# Altium footprint library PCB - POWER MODULE - URB2412YMD-40WR3.PcbLib: 1 footprints
Each footprint in its own frame and in the unit in brackets; x right, y up, seen from the top. Pads: shape width x height; smd on the part's side, far side on the other; paste and mask are expansions set on the pad; w line width, h text height; cw(c..) or ccw(c..) is an arc to the next point about the centre after c.
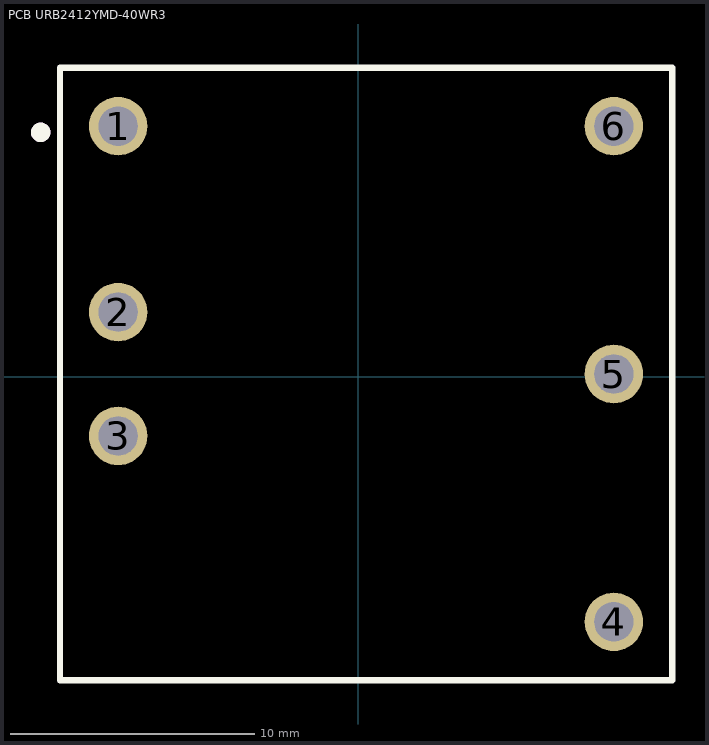
[diagram p0: the footprint, top view; thin cyan lines are the x and y axes]

## PCB URB2412YMD-40WR3 [mm]
pads (6):
  round 2.4 hole 1.6 slot 1.605 at 90 deg paste+0 mask+0.051: 1(-9.833,10.264) 2(-9.833,2.644) 3(-9.833,-2.436) 4(10.487,-10.056) 5(10.487,0.104) 6(10.487,10.264)
Top Overlay:
  lines w0.254: -12.222,-12.446 -12.222,12.654 12.878,12.654 12.878,-12.446 -12.222,-12.446
  lines w0.4: -13.008,10.21 ccw(c-13.008,10.01) -13.004,10.21
Mechanical 29:
  lines w0.4: -13.008,10.21 ccw(c-13.008,10.01) -13.004,10.21
  text "'.Designator'" at 0.381,0.635 h1.52
3D body "REC30K-2412SZ--3DModel-STEP-56544.STEP": height 10.1, standoff -5.7, extent -12.446,-12.573 12.954,12.827